# EAGLE library part RJ11*2 (library con-tycoelectronics)
RJ11 (Style 1 Shield / Style 2 Shield) Source: www.tycoelectronics.com .. ENG_DS_1654001_1099_RJ_L_0507.pdf
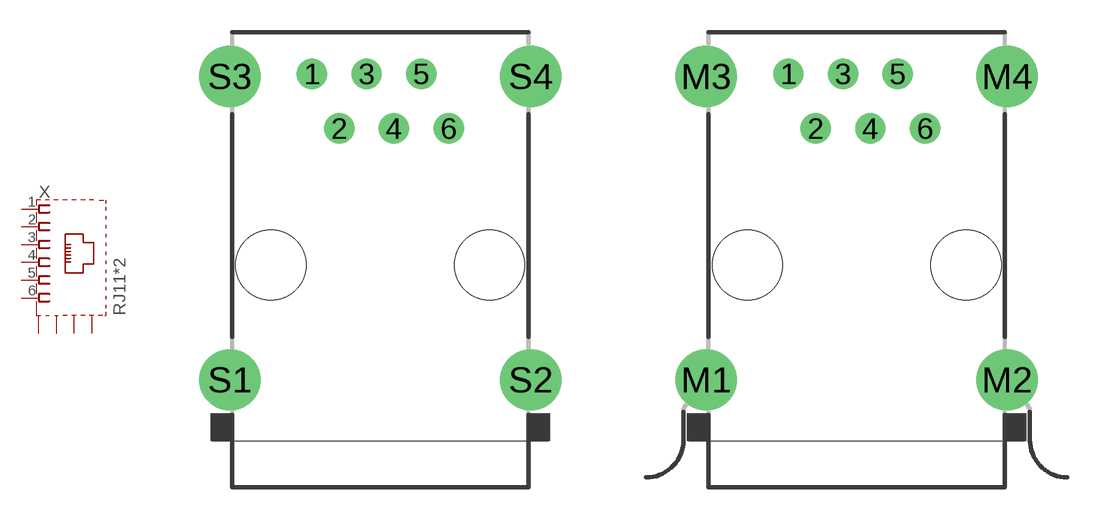
[diagram p4: symbol with the pads of RJ11-SHIELD2; footprints RJ11-SHIELD2, RJ11-SHIELD1]

Designator prefix X

## RJ11-2LC2-S, RJ11-4L2-S, RJ11-4LC2-S, RJ11-6L2-S, RJ11-6LC2-S, RJ11-6LCT2-S  [RJ11-SHIELD2]
1  1  pas
2  2  pas
3  3  pas
4  4  pas
5  5  pas
6  6  pas
S1  S  pas
S2  S  pas
S3  S  pas
S4  S  pas

## RJ11-2LC2-B, RJ11-4L2-B, RJ11-4LC2-B, RJ11-6L2-B, RJ11-6LC2-B, RJ11-6LCT2-B  [RJ11-SHIELD2]
Pads as for RJ11-SHIELD2

## RJ11-2LC21-S, RJ11-4L21-S, RJ11-4LC21-S, RJ11-6L21-S, RJ11-6LC21-S, RJ11-6LCT21-S  [RJ11-SHIELD1]
1  1  pas
2  2  pas
3  3  pas
4  4  pas
5  5  pas
6  6  pas
M1  S  pas
M2  S  pas
M3  S  pas
M4  S  pas

## RJ11-2LC21-B, RJ11-4L21-B, RJ11-4LC21-B, RJ11-6L21-B, RJ11-6LC21-B, RJ11-6LCT21-B  [RJ11-SHIELD1]
Pads as for RJ11-SHIELD1

## Footprint RJ11-SHIELD2 (pad centres in mm)
RJ11 Low Profile Shield Type 2 For all RJ11 N and Z Series Models Source: www.tycoelectronics.com .. ENG_DS_1654001_1099_RJ_L_0507.pdf
drill 0.9 pad 1.4 round: 1 -3.175,8.89; 2 -1.905,6.35; 3 -0.635,8.89; 4 0.635,6.35; 5 1.905,8.89; 6 3.175,6.35
drill 1.9 pad 2.5 round: S1 -6.985,-5.334; S2 6.985,-5.334; S3 -6.985,8.763; S4 6.985,8.763
hole 3.251 at -5.08,0
hole 3.251 at 5.08,0

## Footprint RJ11-SHIELD1 (pad centres in mm)
RJ11 Low Profile Shield Type 1 For all RJ11 N and Z Series Models Source: www.tycoelectronics.com .. ENG_DS_1654001_1099_RJ_L_0507.pdf
drill 0.9 pad 1.4 round: 1 -3.175,8.89; 2 -1.905,6.35; 3 -0.635,8.89; 4 0.635,6.35; 5 1.905,8.89; 6 3.175,6.35
drill 1.9 pad 2.5 round: M1 -6.985,-5.334; M2 6.985,-5.334; M3 -6.985,8.763; M4 6.985,8.763
hole 3.251 at -5.08,0
hole 3.251 at 5.08,0